# Altium footprint library leonLib.PcbLib: 249 footprints (part 2 of 16)
Each footprint in its own frame and in the unit in brackets; x right, y up, seen from the top. Pads: shape width x height; smd on the part's side, far side on the other; paste and mask are expansions set on the pad; w line width, h text height; cw(c..) or ccw(c..) is an arc to the next point about the centre after c.
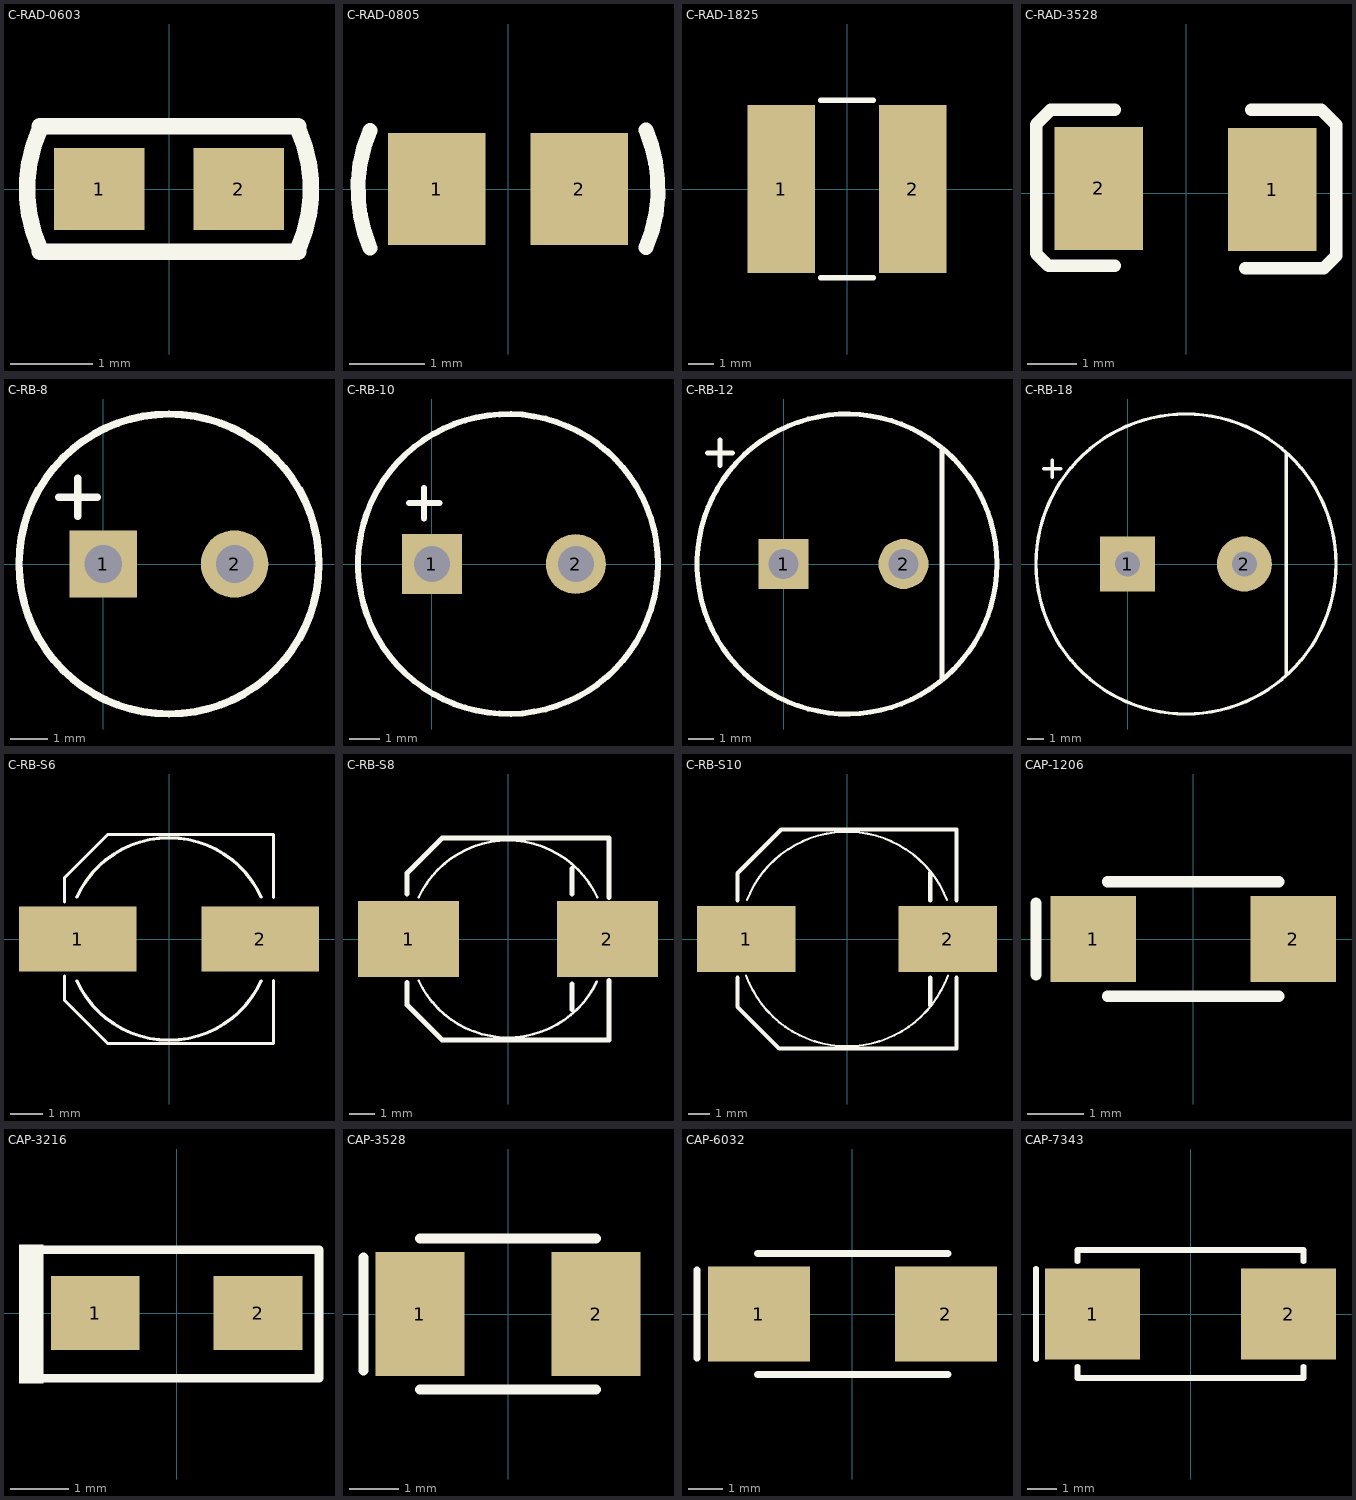
[diagram p1: the footprints below, top view; thin cyan lines are the x and y axes]

## C-RAD-0603 [mm] "贴片电容"
height 0.6
pads (2):
  rect 1.1x1 smd: 1(-0.85,0) 2(0.85,0)
Top Overlay:
  lines w0.2: -1.574,-0.762 1.574,-0.762 ; -1.574,-0.727 cw(c0.048,0) -1.574,0.727 ; -1.574,0.762 1.574,0.762 ; 1.574,-0.727 ccw(c-0.048,0) 1.574,0.727
3D body: height 1, standoff 0, extent -1.143,-0.381 1.143,0.381

## C-RAD-0805 [mm] "贴片电容"
height 1
pads (2):
  rect 1.3x1.5 smd: 1(-0.95,0) 2(0.95,0)
Top Overlay:
  lines w0.2: -1.842,0.779 ccw(c0,0) -1.838,-0.789 ; 1.838,0.789 cw(c0,0) 1.842,-0.779
3D body: height 0.8, standoff 0, extent -1.016,-0.635 1.016,0.635
3D body: height 0.9, standoff 0, extent -1.27,-0.635 -0.889,0.635
3D body: height 0.9, standoff 0, extent 0.889,-0.635 1.27,0.635

## C-RAD-1825 [mm] "贴片电阻"
pads (2):
  rect 2.6x6.5 smd: 1(-2.54,0) 2(2.54,0)
Top Overlay:
  lines w0.2: -1.016,-3.429 1.016,-3.429 ; -1.016,3.429 1.016,3.429
3D body: height 1.2, standoff 0, extent -2.286,-3.175 2.286,3.175

## C-RAD-3528 [mm] "贴片电容"
height 3
pads (2):
  rect 1.8x2.5 smd: 1(1.753,0.075) 2(-1.772,0.1)
Top Overlay:
  lines w0.254: -1.447,-1.475 -2.794,-1.475 -3.048,-1.221 -3.048,1.397 -2.745,1.7 -1.447,1.7 ; 1.203,-1.524 2.794,-1.524 3.048,-1.27 3.048,1.397 2.794,1.651 2.745,1.7 1.328,1.7

## C-RB-8 [mm] "35V 220UF电容"
height 12
pads (2):
  rect 1.8x1.8 hole 1: 1(0,0)
  round 1.8 hole 1: 2(3.5,0)
Top Overlay:
  circle w0.2: c1.75,0 r4
  lines w0.2: -1.185,1.778 -0.169,1.778 ; -0.677,1.27 -0.677,2.286

## C-RB-10 [mm] "35V470uF电容"
height 16
pads (2):
  rect 2x2 hole 1.2: 1(0,0)
  round 2 hole 1.2: 2(4.8,0)
Top Overlay:
  circle w0.2: c2.54,0 r5
  lines w0.2: -0.762,2.032 0.254,2.032 ; -0.254,1.524 -0.254,2.54

## C-RB-12 [mm] "35V470uF电容"
height 20
pads (2):
  rect 2x2 hole 1.2: 1(0,0)
  round 2 hole 1.2: 2(4.8,0)
Top Overlay:
  circle w0.2: c2.54,0 r6
  lines w0.2: -3.048,4.445 -2.032,4.445 ; -2.54,3.937 -2.54,4.953 ; 6.35,-4.572 6.35,4.572

## C-RB-18 [mm] "35V2200uF电容"
height 20
pads (2):
  rect 3.3x3.3 hole 1.5: 1(0,0)
  round 3.3 hole 1.5: 2(7,0)
Top Overlay:
  circle w0.2: c3.5,0 r9
  lines w0.2: -5.037,5.715 -4.021,5.715 ; -4.529,5.207 -4.529,6.223 ; 9.525,-6.604 9.525,6.604

## C-RB-S6 [mm] "贴片电解"
height 7
pads (2):
  rect 3.6x2 smd: 1(-2.794,0) 2(2.794,0)
Top Overlay:
  lines w0.1: -3.2,-1.143 -3.2,-1.88 -1.88,-3.2 3.2,-3.2 3.2,-1.27 ; -3.2,1.143 -3.2,1.88 -1.88,3.2 3.2,3.2 3.2,1.27 ; -2.822,-1.283 ccw(c0,0) 2.822,-1.283 ; -2.822,1.283 cw(c0,0) 2.822,1.283

## C-RB-S8 [mm] "贴片电解"
height 10.2
pads (2):
  rect 4x3 smd: 1(-3.937,0) 2(3.937,0)
Top Overlay:
  lines w0.1: -3.539,-1.643 ccw(c0,0) 3.516,-1.693 ; -3.539,1.643 cw(c0,0) 3.539,1.643
  lines w0.2: -4,-1.714 -4,-2.604 -2.604,-4 4,-4 4,-1.651 ; -4,1.778 -4,2.604 -2.604,4 4,4 4,1.651 ; 2.54,-2.794 2.54,-1.778 ; 2.54,1.778 2.54,2.794
3D body: height 0.6, standoff 0, extent -3.937,-3.937 3.937,3.937
3D body: height 10.9, standoff 0.9, extent -3.849,-3.872 3.88,3.872

## C-RB-S10 [mm] "贴片电解"
height 10.2
pads (2):
  rect 4.5x3 smd: 1(-4.6,0) 2(4.6,0)
Top Overlay:
  lines w0.1: -4.609,-1.664 ccw(c0,0) 4.609,-1.664 ; -4.567,1.776 cw(c0,0) 4.567,1.776
  lines w0.2: -5,-1.778 -5,-3.1 -3.1,-5 5,-5 5,-1.778 ; -5,1.778 -5,3 -3,5 5,5 5,1.778 ; 3.8,-3.032 3.8,-1.778 ; 3.8,1.778 3.8,3.032

## CAP-1206 [mil] "贴片元件"
height 59.06
pads (2):
  rect 60x60 smd: 1(-70,0) 2(70,0)
Top Overlay:
  lines w7.87: -110,-25 -110,25 ; -60,-40 60,-40 ; -60,40 60,40
3D body: height 39.37, standoff 0, extent -55,-35 55,35
3D body: height 39.37, standoff 0, extent 45,-35 65,35
3D body: height 39.37, standoff 0, extent -65,-35 -45,35

## CAP-3216 [mil] "钽电容"
height 78.74
pads (2):
  rect 60x50 smd: 1(-55,0) 2(55,0)
Top Overlay:
  region: -90,46.39 -106.46,46.39 -106.46,-47.61 -90,-47.61
  lines w5.91: -94.83,-43.92 96.11,-43.92 96.11,42.69 -94.83,42.69

## CAP-3528 [mm] "钽电容"
height 3
pads (2):
  rect 1.8x2.5 smd: 1(-1.778,0) 2(1.778,0)
Top Overlay:
  lines w0.2: -2.921,-1.143 -2.921,1.143 ; -1.778,1.524 1.778,1.524 ; -1.775,-1.524 1.778,-1.524
3D body: height 1, standoff 0, extent -1.905,-1.397 1.905,1.397
3D body: height 1.1, standoff 0, extent 1.524,-0.953 1.778,0.953

## CAP-6032 [mm] "钽电容"
pads (2):
  rect 3x2.8 smd: 1(-2.75,0) 2(2.75,0)
Top Overlay:
  lines w0.2: -4.572,-1.3 -4.572,1.3 ; -2.794,-1.778 2.806,-1.778 ; -2.794,1.778 2.806,1.778
3D body: height 1, standoff 0, extent 2.921,-1.143 3.175,1.143
3D body: height 1, standoff 0, extent -3.175,-1.143 -2.921,1.143
3D body: height 1.3, standoff 0, extent -2.921,-1.651 2.921,1.651

## CAP-7343 [mm] "钽电容"
height 4
pads (2):
  rect 3.2x3.05 smd: 1(-3.302,0) 2(3.302,0)
Top Overlay:
  lines w0.2: -5.207,-1.524 -5.207,1.524 ; -3.81,-1.778 -3.81,-2.159 3.81,-2.159 3.81,-1.778 ; -3.81,1.778 -3.81,2.159 3.81,2.159 3.81,1.778
3D body: height 2.95, standoff 1.5, extent -3.429,-1.905 -2.921,1.905
3D body: height 2.9, standoff 0, extent -3.429,-1.905 3.429,1.905
3D body: height 1.3, standoff 0, extent -3.683,-1.143 -3.429,1.143
3D body: height 1.3, standoff 0, extent 3.429,-1.143 3.683,1.143